# EAGLE library part FT232BM (library lbm)
MICROCONTROLLER 2 Kbytes FLASH 128 bytes SRAM 128 bytes EEPROM UART 6-channel 10-bit ADC
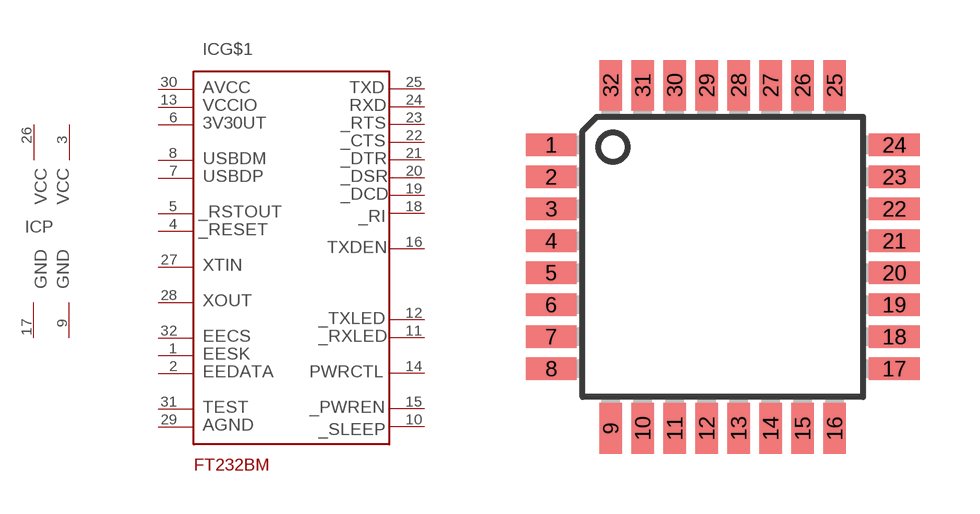
[diagram p45: symbol with the pads of TQFP32-08; footprint TQFP32-08]

Designator prefix IC; gates G$1=FT232BM P=FT232BM_VCC_GND

## FT232BM  [TQFP32-08]
1  G$1:1
2  G$1:2
3  P:3  pwr
4  G$1:4
5  G$1:5
6  G$1:6
7  G$1:7
8  G$1:8
9  P:9  pwr
10  G$1:10
11  G$1:11
12  G$1:12
13  G$1:13
14  G$1:14
15  G$1:15
16  G$1:16
17  P:17  pwr
18  G$1:18
19  G$1:19
20  G$1:20
21  G$1:21
22  G$1:22
23  G$1:23
24  G$1:24
25  G$1:25
26  P:26  pwr
27  G$1:27
28  G$1:28
29  G$1:29
30  G$1:30
31  G$1:31
32  G$1:32

## Footprint TQFP32-08 (pad centres in mm)
Thin Plasic Quad Flat Package Grid 0.8 mm
smd 1.27 x 0.559: 1 -4.293,2.8; 2 -4.293,2; 3 -4.293,1.2; 4 -4.293,0.4; 5 -4.293,-0.4; 6 -4.293,-1.2; 7 -4.293,-2; 8 -4.293,-2.8; 17 4.293,-2.8; 18 4.293,-2; 19 4.293,-1.2; 20 4.293,-0.4; 21 4.293,0.4; 22 4.293,1.2; 23 4.293,2; 24 4.293,2.8
smd 0.559 x 1.27: 9 -2.8,-4.293; 10 -2,-4.293; 11 -1.2,-4.293; 12 -0.4,-4.293; 13 0.4,-4.293; 14 1.2,-4.293; 15 2,-4.293; 16 2.8,-4.293; 25 2.8,4.293; 26 2,4.293; 27 1.2,4.293; 28 0.4,4.293; 29 -0.4,4.293; 30 -1.2,4.293; 31 -2,4.293; 32 -2.8,4.293